# Altium schematic symbol library TXU0101DBVR.SchLib: 1 symbol
Pins are listed as number, name and electrical type; pins without a type are passive.

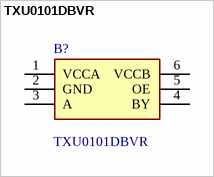
[diagram p0: symbol TXU0101DBVR]

## TXU0101DBVR
designator B?
Translation - Voltage Levels Single channel fixed-direction level shifter; Manufacturer_Name: Texas Instruments; Geometry.Height: 1.45mm; Mouser Part Number: 595-TXU0101DBVR; Mouser Price/Stock: https://www.mouser.co.uk/ProductDetail/Texas-Instruments/TXU0101DBVR?qs=IPgv5n7u5QaPPuDmRaldJw%3D%3D; Manufacturer_Part_Number: TXU0101DBVR; Datasheet Link: https://www.ti.com/lit/ds/symlink/txu0101.pdf?ts=1669130963626&ref_url=https%253A%252F%252Fwww.ti.com%252Fproduct%252FTXU0101
footprint SOT95P280X145-6N
pins: 1 VCCA, 2 GND, 3 A, 4 BY, 5 OE, 6 VCCB